# Altium schematic symbol library CC3501_Misc_Symbols.SchLib: 7 symbols
Pins are listed as number, name and electrical type; pins without a type are passive.

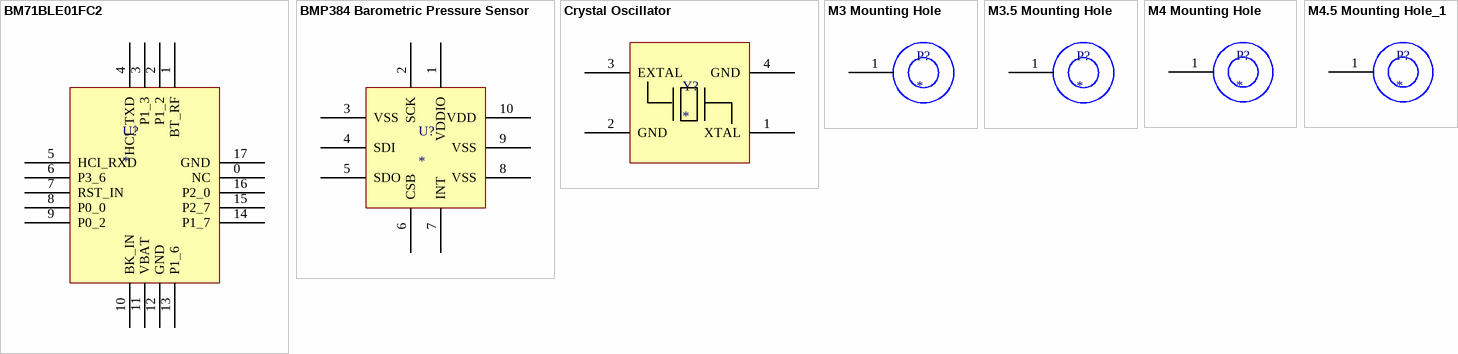
[diagram p0: symbols BM71BLE01FC2 to M4.5 Mounting Hole_1]

## BM71BLE01FC2
designator U?
Microchip BM71BLE01FC2 Bluetooth Low Energy (BLE) Module; Datasheet: https://au.mouser.com/datasheet/2/268/Bluetooth_Low_Energy_BLE_Module_DS60001372K-2257931.pdf
footprint BM71BLE01FC2 (Microchip BM71BLE01FC2 Bluetooth Low Energy (BLE) Module)
pins: 0 NC, 1 BT_RF, 2 P1_2, 3 P1_3, 4 HCI_TXD, 5 HCI_RXD, 6 P3_6, 7 RST_IN, 8 P0_0, 9 P0_2, 10 BK_IN, 11 VBAT, 12 GND, 13 P1_6, 14 P1_7, 15 P2_7, 16 P2_0, 17 GND

## BMP384 Barometric Pressure Sensor
designator U?
Bosch BMP384 Barometric Pressure Sensor
footprint BMP384 LGA 2.0x2.0x0.95mm 10pin (Bosch BMP384 Barometric Pressure Sensor, 10pin, SMT)
pins: 1 VDDIO (power), 2 SCK, 3 VSS (power), 4 SDI, 5 SDO, 6 CSB, 7 INT, 8 VSS (power), 9 VSS (power), 10 VDD (power)

## Crystal Oscillator
designator Y?
Abracon  ABM3B Oscillator
footprint ABM3B
pins: 1 XTAL, 2 GND (power), 3 EXTAL, 4 GND (power)

## M3 Mounting Hole
designator P?
M3 Mounting Hole, ID 2.73mm
footprint M3 Mounting Hole (ID 2.73mm)
pins: 1 (power)

## M3.5 Mounting Hole
designator P?
M3.5 Mounting Hole, ID 3.23mm
footprint M3.5 Mounting Hole (ID 3.23mm)
pins: 1 (power)

## M4 Mounting Hole
designator P?
M4 Mounting Hole, ID 3.62mm
footprint M4 Mounting Hole (ID 3.62mm)
pins: 1 (power)

## M4.5 Mounting Hole_1
designator P?
M4.5 Mounting Hole, ID 4.12mm
footprint M4.5 Mounting Hole (ID 4.12mm)
pins: 1 (power)